# Altium schematic symbol library SIM7600G-H_R2.SchLib: 1 symbol
Pins are listed as number, name and electrical type; pins without a type are passive.

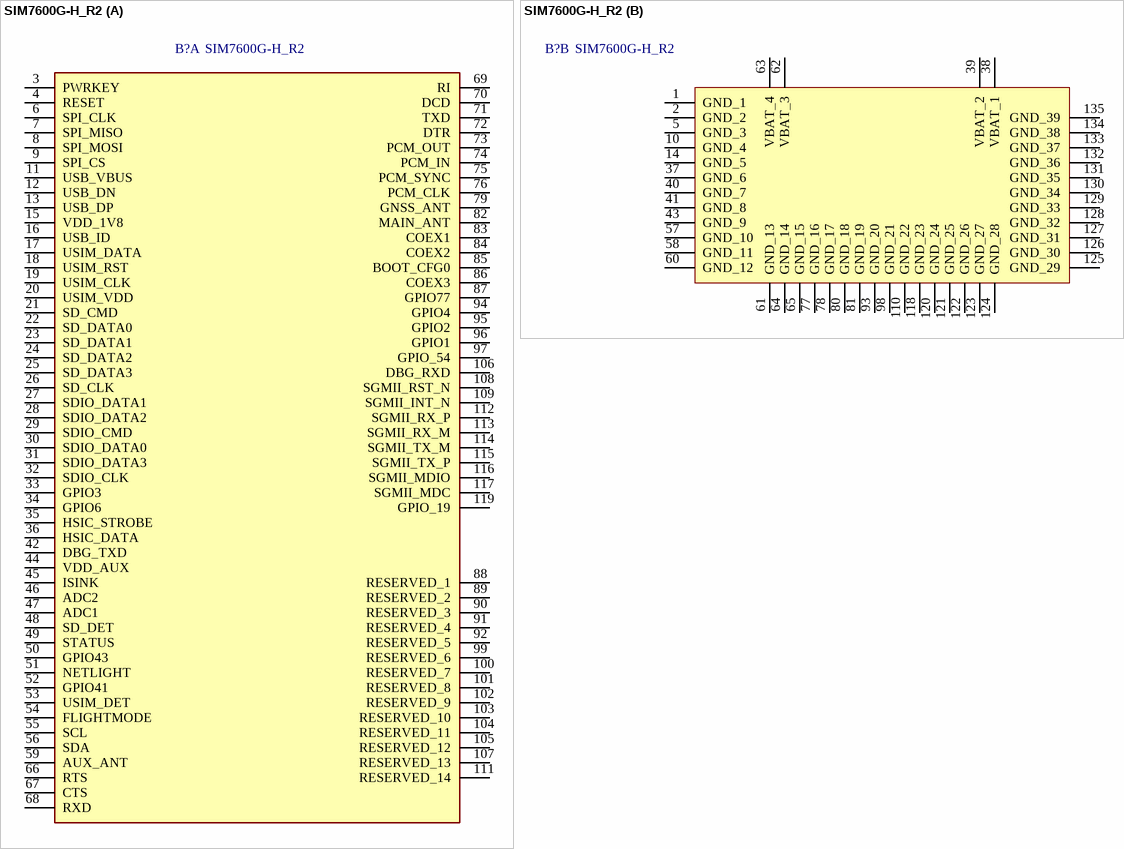
[diagram p0: symbol SIM7600G-H_R2]

## SIM7600G-H_R2
designator B?
Cellular EDGE, GPRS, GSM, HSPA+, LTE Transceiver Module 850MHz, 900MHz, 1.8GHz, 1.9GHz Antenna Not Included Surface Mount; Manufacturer_Name: SIMCOM; Manufacturer_Part_Number: SIM7600G-H R2; Geometry.Height: 3.1mm; Mouser Part Number: *; Mouser Price/Stock: *; Arrow Part Number: *; Arrow Price/Stock: *; Datasheet Link: https://fcc.report/FCC-ID/2AJYU-8PYA007/4857209.pdf
footprint SIM7600GHR2
part A pins: 3 PWRKEY, 4 RESET, 6 SPI_CLK, 7 SPI_MISO, 8 SPI_MOSI, 9 SPI_CS, 11 USB_VBUS, 12 USB_DN, 13 USB_DP, 15 VDD_1V8, 16 USB_ID, 17 USIM_DATA, 18 USIM_RST, 19 USIM_CLK, 20 USIM_VDD, 21 SD_CMD, 22 SD_DATA0, 23 SD_DATA1, 24 SD_DATA2, 25 SD_DATA3, 26 SD_CLK, 27 SDIO_DATA1, 28 SDIO_DATA2, 29 SDIO_CMD, 30 SDIO_DATA0, 31 SDIO_DATA3, 32 SDIO_CLK, 33 GPIO3, 34 GPIO6, 35 HSIC_STROBE, 36 HSIC_DATA, 42 DBG_TXD, 44 VDD_AUX, 45 ISINK, 46 ADC2, 47 ADC1, 48 SD_DET, 49 STATUS, 50 GPIO43, 51 NETLIGHT, 52 GPIO41, 53 USIM_DET, 54 FLIGHTMODE, 55 SCL, 56 SDA, 59 AUX_ANT, 66 RTS, 67 CTS, 68 RXD, 69 RI, 70 DCD, 71 TXD, 72 DTR, 73 PCM_OUT, 74 PCM_IN, 75 PCM_SYNC, 76 PCM_CLK, 79 GNSS_ANT, 82 MAIN_ANT, 83 COEX1, 84 COEX2, 85 BOOT_CFG0, 86 COEX3, 87 GPIO77, 88 RESERVED_1, 89 RESERVED_2, 90 RESERVED_3, 91 RESERVED_4, 92 RESERVED_5, 94 GPIO4, 95 GPIO2, 96 GPIO1, 97 GPIO_54, 99 RESERVED_6, 100 RESERVED_7, 101 RESERVED_8, 102 RESERVED_9, 103 RESERVED_10, 104 RESERVED_11, 105 RESERVED_12, 106 DBG_RXD, 107 RESERVED_13, 108 SGMII_RST_N, 109 SGMII_INT_N, 111 RESERVED_14, 112 SGMII_RX_P, 113 SGMII_RX_M, 114 SGMII_TX_M, 115 SGMII_TX_P, 116 SGMII_MDIO, 117 SGMII_MDC, 119 GPIO_19
part B pins: 1 GND_1, 2 GND_2, 5 GND_3, 10 GND_4, 14 GND_5, 37 GND_6, 38 VBAT_1, 39 VBAT_2, 40 GND_7, 41 GND_8, 43 GND_9, 57 GND_10, 58 GND_11, 60 GND_12, 61 GND_13, 62 VBAT_3, 63 VBAT_4, 64 GND_14, 65 GND_15, 77 GND_16, 78 GND_17, 80 GND_18, 81 GND_19, 93 GND_20, 98 GND_21, 110 GND_22, 118 GND_23, 120 GND_24, 121 GND_25, 122 GND_26, 123 GND_27, 124 GND_28, 125 GND_29, 126 GND_30, 127 GND_31, 128 GND_32, 129 GND_33, 130 GND_34, 131 GND_35, 132 GND_36, 133 GND_37, 134 GND_38, 135 GND_39